# Altium integrated library HDSP-U113.IntLib: 1 symbol
Pins are listed as number, name and electrical type; pins without a type are passive.

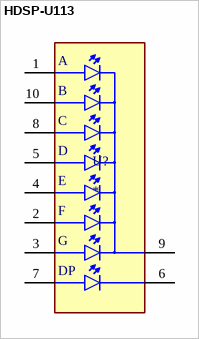
[diagram p0: symbol HDSP-U113]

## HDSP-U113
designator U?
Display Modules - LED Character and Numeric Red 7-Segment 1 Character Common Cathode 1.7V 5mA 0.433 H x 0.280 W x 0.197 D (11.00mm x 7.10mm x 5.00mm) 10-DIP (0.209, 5.30mm); MF: Avago; MP: HDSP-U113; Package: None; Price: None; Value: *; SnapEDA_Link: https://www.snapeda.com/parts/HDSP-U113/Avago/view-part/?ref=snap; Availability: In Stock; Check_prices: https://www.snapeda.com/parts/HDSP-U113/Avago/view-part/?ref=eda
footprint LED_HDSP-U113
pins: 1 A, 2 F, 3 G, 4 E, 5 D, 6 DP_C, 7 DP_A, 8 C, 9 COM, 10 B
text: DP